# Altium footprint library RM_addition.PcbLib: 124 footprints (part 5 of 8)
Each footprint in its own frame and in the unit in brackets; x right, y up, seen from the top. Pads: shape width x height; smd on the part's side, far side on the other; paste and mask are expansions set on the pad; w line width, h text height; cw(c..) or ccw(c..) is an arc to the next point about the centre after c.
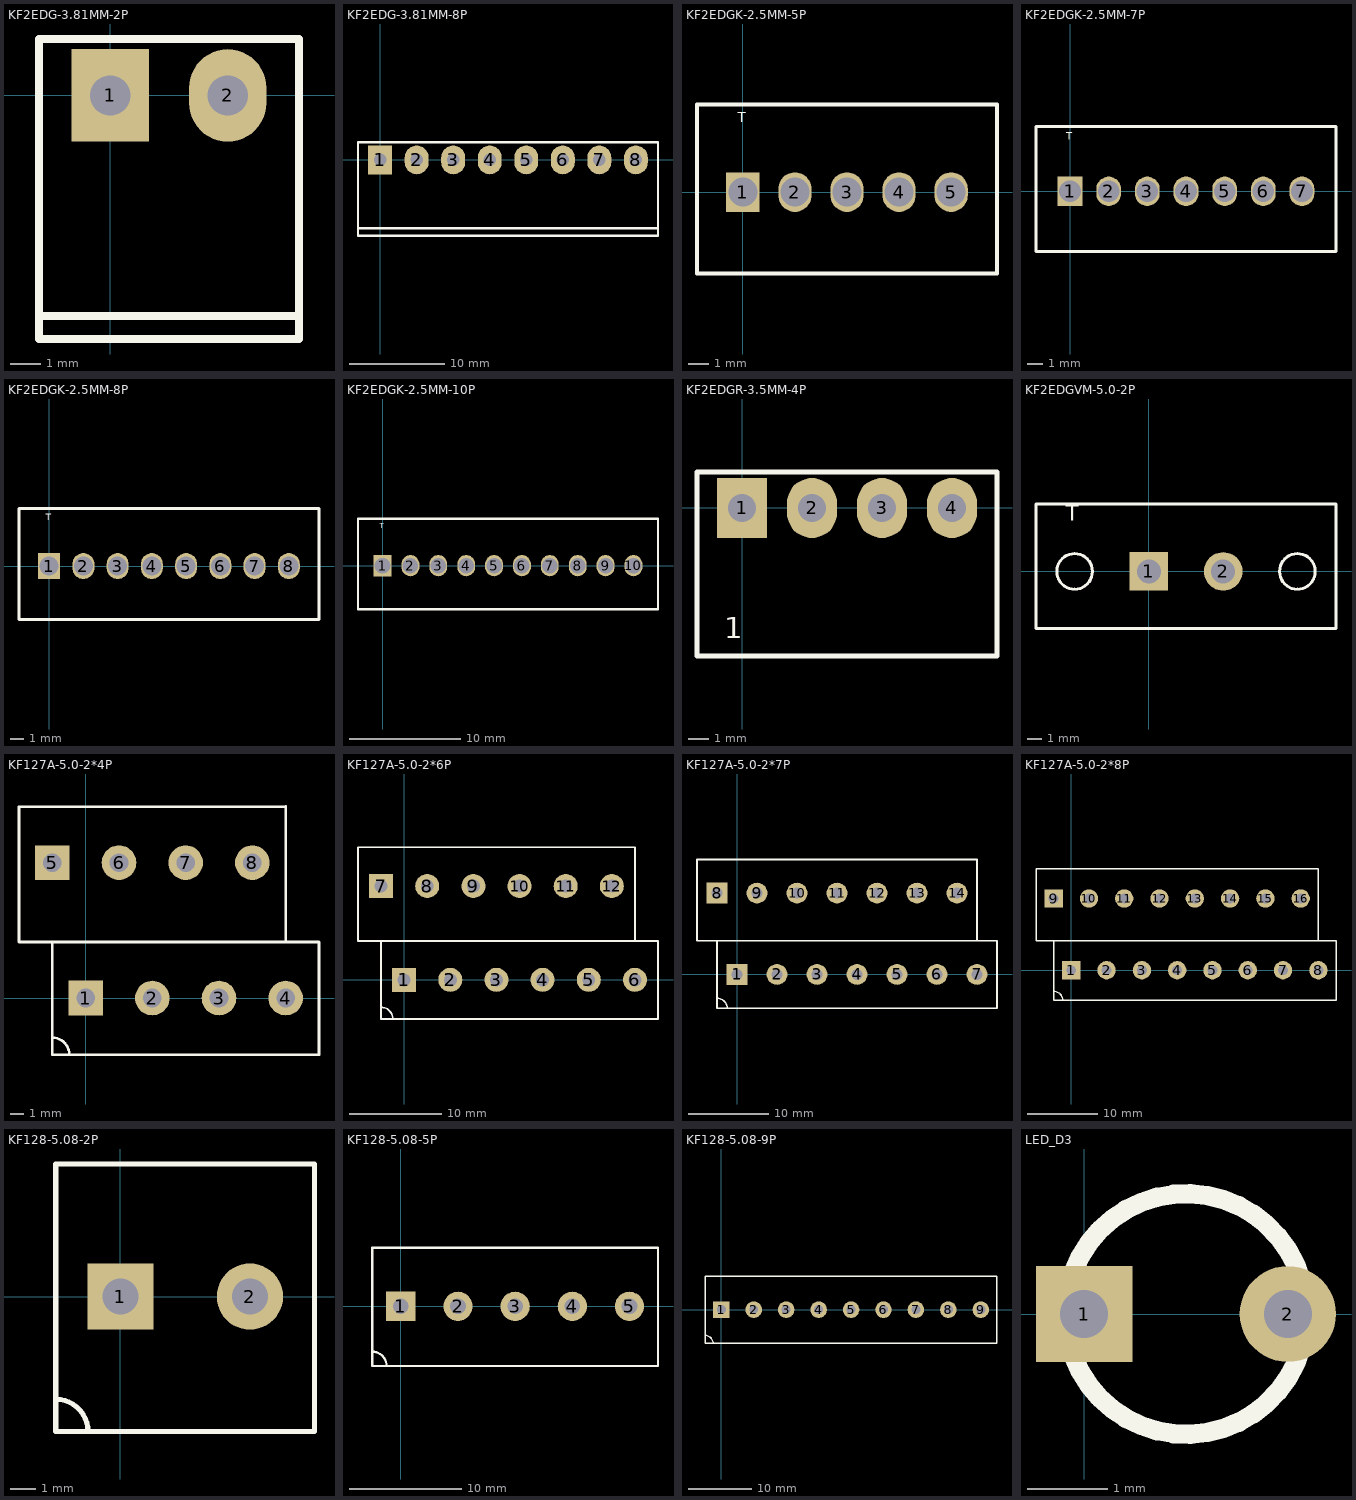
[diagram p4: the footprints below, top view; thin cyan lines are the x and y axes]

## KF2EDG-3.81MM-2P [mm]
pads (2):
  rect 2.5x3 hole 1.3: 1(0,0)
  oval 2.5x3 hole 1.3: 2(3.81,0)
Top Overlay:
  lines w0.254: -2.31,-7.15 6.12,-7.15 ; -2.31,-7.9 6.12,-7.9 6.12,1.83 -2.31,1.83 -2.31,-7.9

## KF2EDG-3.81MM-8P [mm]
pads (8):
  rect 2.5x3 hole 1.3: 1(0,0)
  oval 2.5x3 hole 1.3: 2(3.81,0) 3(7.62,0) 4(11.43,0) 5(15.24,0) 6(19.05,0) 7(22.86,0) 8(26.67,0)
Top Overlay:
  lines w0.254: -2.31,-7.15 28.98,-7.15 ; -2.31,-7.9 28.98,-7.9 28.98,1.83 -2.31,1.83 -2.31,-7.9

## KF2EDGK-2.5MM-5P [mm]
pads (5):
  rect 1.6x1.9 hole 1.4: 1(0,0)
  oval 1.6x1.9 hole 1.4: 2(2.5,0) 3(5,0) 4(7.5,0) 5(10,0)
Top Overlay:
  lines w0.2: -2.2,-3.9 -2.2,4.2 12.2,4.2 12.2,-3.9 -2.2,-3.9
  text "T" at -0.254,3.175 h0.8

## KF2EDGK-2.5MM-7P [mm]
pads (7):
  rect 1.6x1.9 hole 1.4: 1(0,0)
  oval 1.6x1.9 hole 1.4: 2(2.5,0) 3(5,0) 4(7.5,0) 5(10,0) 6(12.5,0) 7(15,0)
Top Overlay:
  lines w0.2: -2.2,-3.9 -2.2,4.2 17.2,4.2 17.2,-3.9 -2.2,-3.9
  text "T" at -0.254,3.175 h0.8

## KF2EDGK-2.5MM-8P [mm]
pads (8):
  rect 1.6x1.9 hole 1.4: 1(0,0)
  oval 1.6x1.9 hole 1.4: 2(2.5,0) 3(5,0) 4(7.5,0) 5(10,0) 6(12.5,0) 7(15,0) 8(17.5,0)
Top Overlay:
  lines w0.2: -2.2,-3.9 19.7,-3.9 19.7,4.2 -2.2,4.2 -2.2,-3.9
  text "T" at -0.254,3.175 h0.8

## KF2EDGK-2.5MM-10P [mm]
pads (10):
  rect 1.6x1.9 hole 1.4: 1(0,0)
  oval 1.6x1.9 hole 1.4: 2(2.5,0) 3(5,0) 4(7.5,0) 5(10,0) 6(12.5,0) 7(15,0) 8(17.5,0) 9(20,0) 10(22.5,0)
Top Overlay:
  lines w0.2: -2.2,-3.9 -2.2,4.2 24.7,4.2 24.7,-3.9 -2.2,-3.9
  text "T" at -0.254,3.175 h0.8

## KF2EDGR-3.5MM-4P [mm]
pads (4):
  rect 2.5x3 hole 1.4: 1(0,0)
  oval 2.5x3 hole 1.4: 2(3.5,0) 3(7,0) 4(10.5,0)
Top Overlay:
  lines w0.254: -2.25,-7.4 12.75,-7.4 12.75,1.8 -2.25,1.8 -2.25,-7.4
  text "1" at -0.889,-6.858 h1.8

## KF2EDGVM-5.0-2P [mm]
pads (2):
  rect 2.6x2.6 hole 1.6: 1(0,0)
  round 2.6 hole 1.6: 2(5,0)
Top Overlay:
  circle w0.2: c10,0 r1.2
  circle w0.2: c-5,0 r1.2
  lines w0.2: -7.6,-3.85 -7.6,4.55 12.6,4.55 12.6,-3.85 -7.6,-3.85
  text "T" at -5.588,3.048 h1.8

## KF127A-5.0-2*4P [mm]
pads (8):
  rect 2.6x2.6 hole 1.4: 1(0,0) 5(-2.5,10.16)
  round 2.6 hole 1.4: 2(5,0) 3(10,0) 4(15,0) 6(2.5,10.16) 7(7.5,10.16) 8(12.5,10.16)
Top Overlay:
  lines w0.2: -2.5,-2.97 cw(c-2.5,-4.24) -1.23,-4.24 ; 15,4.209 15,14.369 ; 15,14.36 -5,14.36 -5,4.2 -2.5,4.2 ; -2.5,4.2 -2.5,-4.24 17.5,-4.24 17.5,4.2 -2.5,4.2

## KF127A-5.0-2*6P [mm]
pads (12):
  rect 2.6x2.6 hole 1.4: 1(0,0) 7(-2.5,10.16)
  round 2.6 hole 1.4: 2(5,0) 3(10,0) 4(15,0) 5(20,0) 6(25,0) 8(2.5,10.16) 9(7.5,10.16) 10(12.5,10.16) 11(17.5,10.16) 12(22.5,10.16)
Top Overlay:
  lines w0.2: -2.5,-2.97 cw(c-2.5,-4.24) -1.23,-4.24 ; 25,4.2 25,14.36 -5,14.36 -5,4.2 -2.5,4.2 ; -2.5,4.2 27.5,4.2 27.5,-4.24 -2.5,-4.24 -2.5,4.2

## KF127A-5.0-2*7P [mm]
pads (14):
  rect 2.6x2.6 hole 1.4: 1(0,0) 8(-2.5,10.16)
  round 2.6 hole 1.4: 2(5,0) 3(10,0) 4(15,0) 5(20,0) 6(25,0) 7(30,0) 9(2.5,10.16) 10(7.5,10.16) 11(12.5,10.16) 12(17.5,10.16) 13(22.5,10.16) 14(27.5,10.16)
Top Overlay:
  lines w0.2: -2.5,-2.97 cw(c-2.5,-4.24) -1.23,-4.24 ; 30,4.2 30,14.36 -5,14.36 -5,4.2 -2.5,4.2 ; -2.5,4.2 -2.5,-4.24 32.5,-4.24 32.5,4.2 -2.5,4.2

## KF127A-5.0-2*8P [mm]
pads (16):
  rect 2.6x2.6 hole 1.4: 1(0,0) 9(-2.5,10.16)
  round 2.6 hole 1.4: 2(5,0) 3(10,0) 4(15,0) 5(20,0) 6(25,0) 7(30,0) 8(35,0) 10(2.5,10.16) 11(7.5,10.16) 12(12.5,10.16) 13(17.5,10.16) 14(22.5,10.16) 15(27.5,10.16) 16(32.5,10.16)
Top Overlay:
  lines w0.2: -2.5,-2.97 cw(c-2.5,-4.24) -1.23,-4.24 ; 35,4.2 35,14.36 -5,14.36 -5,4.2 -2.5,4.2 ; -2.5,4.2 -2.5,-4.24 37.5,-4.24 37.5,4.2 -2.5,4.2

## KF128-5.08-2P [mm]
pads (2):
  rect 2.6x2.6 hole 1.4: 1(0,0)
  round 2.6 hole 1.4: 2(5.08,0)
Top Overlay:
  lines w0.2: -2.54,-4.03 cw(c-2.54,-5.3) -1.27,-5.3 ; -2.54,-5.3 7.62,-5.3 7.62,5.2 -2.54,5.2 -2.54,-5.3

## KF128-5.08-5P [mm]
pads (5):
  rect 2.6x2.6 hole 1.4: 1(0,0)
  round 2.6 hole 1.4: 2(5.08,0) 3(10.16,0) 4(15.24,0) 5(20.32,0)
Top Overlay:
  lines w0.2: -2.54,-4.03 cw(c-2.54,-5.3) -1.27,-5.3 ; -2.54,-5.3 -2.54,5.2 22.86,5.2 22.86,-5.3 -2.54,-5.3

## KF128-5.08-9P [mm]
pads (9):
  rect 2.6x2.6 hole 1.4: 1(0,0)
  round 2.6 hole 1.4: 2(5.08,0) 3(10.16,0) 4(15.24,0) 5(20.32,0) 6(25.4,0) 7(30.48,0) 8(35.56,0) 9(40.64,0)
Top Overlay:
  lines w0.2: -2.54,-4.03 cw(c-2.54,-5.3) -1.27,-5.3 ; -2.54,-5.3 -2.54,5.2 43.18,5.2 43.18,-5.3 -2.54,-5.3

## LED_D3 [mm]
pads (2):
  rect 1.2x1.2 hole 0.6: 1(0,0)
  round 1.2 hole 0.6: 2(2.54,0)
Top Overlay:
  circle w0.24: c1.27,0 r1.5